# EAGLE library part 691307500006 (library Wuerth_Elektronik_eiCan_Terminal_Blocks_v2.0)
WR-TBL Serie 3075 - 5.08mm Reversed Gender Vertiacal PCB Header , 6 pins
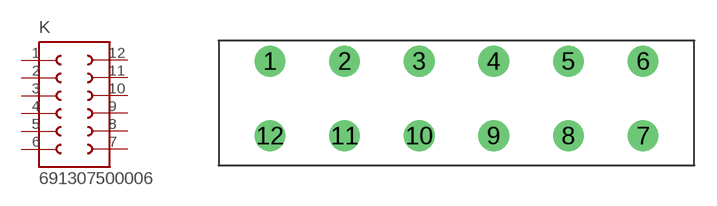
[diagram p174: symbol with the pads of 691307500006; footprint 691307500006]

Designator prefix K

## 691307500006  [691307500006]
1  1  pas
2  2  pas
3  3  pas
4  4  pas
5  5  pas
6  6  pas
7  7  pas
8  8  pas
9  9  pas
10  10  pas
11  11  pas
12  12  pas

## Footprint 691307500006 (pad centres in mm)
WR-TBL Serie 3075 - 5.08mm Reversed Gender Vertiacal PCB Header , 6 pins
drill 1.4 round: 1 -15.24,0; 2 -10.16,0; 3 -5.08,0; 4 0,0; 5 5.08,0; 6 10.16,0; 7 10.16,-5.08; 8 5.08,-5.08; 9 0,-5.08; 10 -5.08,-5.08; 11 -10.16,-5.08; 12 -15.24,-5.08